# Altium schematic symbol library RPSLib_Diodes.SchLib: 24 symbols
Pins are listed as number, name and electrical type; pins without a type are passive.

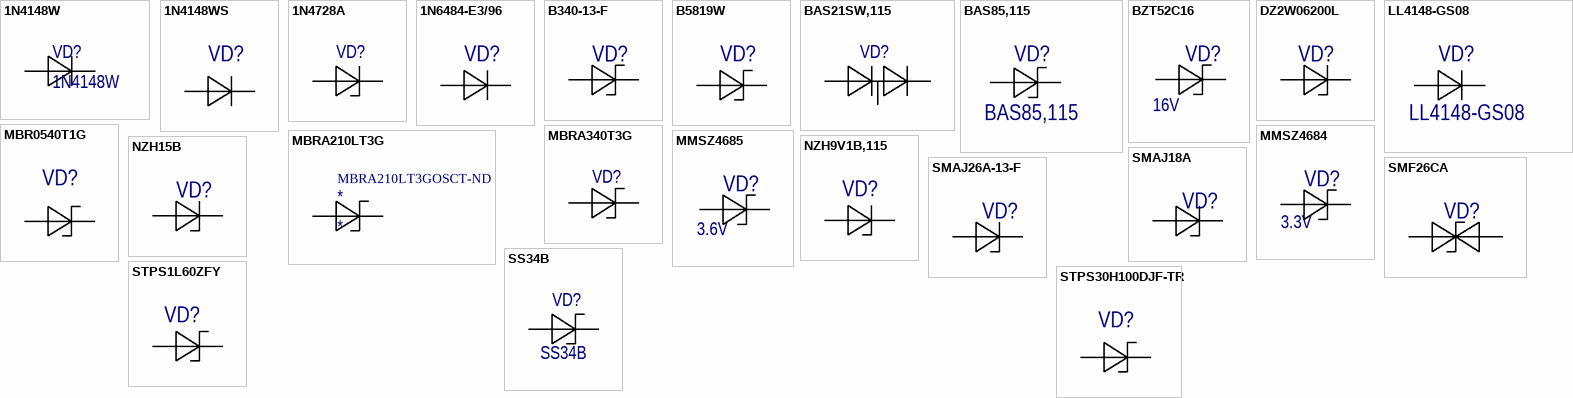
[diagram p0: symbols 1N4148W to STPS30H100DJF-TR]

## 1N4148W
designator VD?
Rectifier Diode Switching 100V 0.3A 4ns 2-Pin SOD-123 T/R / DIODE GEN PURP 100V 150MA SOD123; Manufacturer: JSMSEMI; Capacitance: 0F; Max Forward Surge Current (Ifsm): 1A; Max Reverse Current: 1uA; Max Surge Current: 2A; Forward Voltage: 1V; Power Dissipation: 400mW; Polarity: Standard; Max Reverse Leakage Current: 5uA; Supplier 1: LCSC; Manufacturer Part Number: 1N4148W; RoHS: Yes; Category: Rectifier Diodes; Stock 1: 5591842; Pricing 1: 1=0,12, 10=0,083, 100=0,045, 500=0,03534, 1000=0,02454 (USD); Mount: Surface Mount; Number of Pins: 2; Min Operating Temperature: -65°C; Max Operating Temperature: 150°C; Packaging: Tape and Reel; Forward Current: 150mA; Package Quantity: 1; Recovery Time: 4ns; Average Rectified Current: 150mA; Reverse Recovery Time: 4ns; Max Repetitive Reverse Voltage (Vrrm): 100V; Max Reverse Voltage (DC): 100V; Series: -; Peak Non-Repetitive Surge Current: 2A; Reverse Recovery Time-Max: 4ns; Reverse Voltage: 100V; Voltage Rating (DC): 100V; Current Rating: 150mA; Output Current: 150mA; Length: 2.85mm; Width: 1.8mm; Height: 1.2mm; Radiation Hardening: No; Lead Free: Lead Free; RoHS Compliant: Yes; Reach SVHC Compliant: Unknown; Supplier Part Number 1: C917030
footprint SOD123
pins: 1 A, 2 K

## 1N4148WS
designator VD?  (value not drawn)
DIODE GEN PURP 75V 150MA SOD323F; Manufacturer: ON Semiconductor / Fairchild; Element Configuration: Single; Reverse Recovery Time: 4ns; Forward Voltage: 1V; Peak Reverse Current: 5uA; Power Dissipation: 200mW; Max Forward Surge Current (Ifsm): 2A; Supplier 1: Digi-Key; Manufacturer Part Number: 1N4148WS; RoHS: Yes; Category: Rectifier Diodes; Stock 1: 500500; Pricing 1: 1=0,17000, 10=0,15200, 100=0,06350, 500=0,04986, 1000=0,03462 (USD); Mount: Surface Mount; Number of Pins: 2; Weight: 0.0276g; Contact Plating: Tin,Matte; Min Operating Temperature: -55°C; Max Operating Temperature: 150°C; Forward Current: 150mA; Max Repetitive Reverse Voltage (Vrrm): 75V; Packaging: Tape and Reel; Package Quantity: 1; Average Rectified Current: 150mA; Max Reverse Voltage (DC): 75V; Recovery Time: 4ns; Reverse Voltage: 75V; Length: 1.8mm; Height: 1mm; Width: 1.35mm; Radiation Hardening: No; Lead Free: Lead Free; REACH SVHC: No SVHC; ComponentLink1URL: https://datasheet.ciiva.com/25968/1n914bws-25968945.pdf?src-supplier=Avnet+Europe; ComponentLink1Description: https://datasheet.ciiva.com/25968/1n914bws-25968945.pdf?src-supplier=Avnet+Europe; ComponentLink2URL: https://datasheet.ciiva.com/30479/0900766b810e1cd3-30479206.pdf?src-supplier=RSComponents; ComponentLink2Description: https://datasheet.ciiva.com/30479/0900766b810e1cd3-30479206.pdf?src-supplier=RSComponents; ComponentLink3URL: https://datasheet.ciiva.com/15208/getdatasheetpartid-127819-15208358.pdf?src-supplier=Verical; ComponentLink3Description: https://datasheet.ciiva.com/15208/getdatasheetpartid-127819-15208358.pdf?src-supplier=Verical; ComponentLink4URL: https://datasheet.ciiva.com/8300/1n914bws-8300360.pdf?src-supplier=Avnet; ComponentLink4Description: https://datasheet.ciiva.com/8300/1n914bws-8300360.pdf?src-supplier=Avnet; ComponentLink5URL: https://datasheet.ciiva.com/910/1n4148ws-910380.pdf?src-supplier=Digi-Key; ComponentLink5Description: https://datasheet.ciiva.com/910/1n4148ws-910380.pdf?src-supplier=Digi-Key; ComponentLink6URL: https://datasheet.ciiva.com/910/1n4148ws-910381.pdf?src-supplier=Digi-Key; ComponentLink6Description: https://datasheet.ciiva.com/910/1n4148ws-910381.pdf?src-supplier=Digi-Key; ComponentLink7URL: https://datasheet.ciiva.com/910/1n4148ws-910382.pdf?src-supplier=Digi-Key; ComponentLink7Description: https://datasheet.ciiva.com/910/1n4148ws-910382.pdf?src-supplier=Digi-Key; Supplier Part Number 1: 1N4148WSFSCT-ND
footprint SOD323
pins: 1 K, 2 A

## 1N4728A
designator VD?  (value not drawn)
1N4728 Series 1 W 3.3 V 100 uA Through Hole Zener Diode - DO-41; Manufacturer: ON Semiconductor / Fairchild; Supplier 1: Digikey; Manufacturer Part Number: 1N4728A; RoHS: Yes; Category: Zener Diodes; Stock 1: 7112; Pricing 1: 1=0,28, 10=0,193, 100=0,0942, 500=0,07858, 1000=0,0546, 3000=0,04732, 6000=0,0439, 12000=0,0364, 51000=0,03212 (USD); ComponentLink1URL: https://datasheet.ciiva.com/15142/getdatasheetpartid-60747-15142276.pdf?src-supplier=Verical; ComponentLink1Description: https://datasheet.ciiva.com/15142/getdatasheetpartid-60747-15142276.pdf?src-supplier=Verical; ComponentLink2URL: https://datasheet.ciiva.com/27049/743333-27049709.pdf?src-supplier=Jameco; ComponentLink2Description: https://datasheet.ciiva.com/27049/743333-27049709.pdf?src-supplier=Jameco; ComponentLink3URL: https://datasheet.ciiva.com/8059/76501-8059614.pdf?src-supplier=Element14; ComponentLink3Description: https://datasheet.ciiva.com/8059/76501-8059614.pdf?src-supplier=Element14; ComponentLink4URL: https://datasheet.ciiva.com/897/1n4731a-897560.pdf?src-supplier=Digikey; ComponentLink4Description: https://datasheet.ciiva.com/897/1n4731a-897560.pdf?src-supplier=Digikey; ComponentLink5URL: https://datasheet.ciiva.com/3304/1n4730a-3304278.pdf?src-supplier=Avnet; ComponentLink5Description: https://datasheet.ciiva.com/3304/1n4730a-3304278.pdf?src-supplier=Avnet; ComponentLink6URL: https://datasheet.ciiva.com/1181/1482758-1181763.pdf?src-supplier=Element14; ComponentLink6Description: https://datasheet.ciiva.com/1181/1482758-1181763.pdf?src-supplier=Element14; ComponentLink7URL: https://datasheet.ciiva.com/16836/1n4728a-16836229.pdf?src-supplier=Future+Electronics; ComponentLink7Description: https://datasheet.ciiva.com/16836/1n4728a-16836229.pdf?src-supplier=Future+Electronics; Supplier Part Number 1: 1N4728A-ND
footprint DO-41 (Molded Diode, 2-Leads,  Throug hple)
pins: 1 C, 2 A

## 1N6484-E3/96
designator VD?  (value not drawn)
Rectifier Diode, 1 Element, 1A, 1000V V(RRM), Silicon, DO-213AB; Manufacturer: Vishay Semiconductors; Max Reverse Current: 10uA; Max Surge Current: 30A; Forward Voltage: 1.1V; Max Repetitive Reverse Voltage (Vrrm): 1kV; Element Configuration: Single; Supplier 1: Digi-Key; Manufacturer Part Number: 1N6484-E3/96; RoHS: Yes; Category: Rectifier Diodes; Mount: Surface Mount; Case/Package: DO-213AB; Number of Pins: 2; Contact Plating: Tin,Matte; Min Operating Temperature: -65°C; Max Operating Temperature: 175°C; Packaging: Tape and Reel; Forward Current: 1A; Package Quantity: 1; Average Rectified Current: 1A; Peak Non-Repetitive Surge Current: 30A; Max Reverse Voltage (DC): 1kV; Reverse Voltage: 1kV; Series: SUPERECTIFIER®; Diameter: 2.67mm; Length: 5.2mm; Radiation Hardening: No; Lead Free: Lead Free; RoHS Compliant: Yes; ComponentLink1URL: https://datasheet.ciiva.com/15190/getdatasheetpartid-323020-15190531.pdf?src-supplier=Verical; ComponentLink1Description: https://datasheet.ciiva.com/15190/getdatasheetpartid-323020-15190531.pdf?src-supplier=Verical; ComponentLink2URL: https://datasheet.ciiva.com/16303/1n6478-16303278.pdf?src-supplier=Future+Electronics; ComponentLink2Description: https://datasheet.ciiva.com/16303/1n6478-16303278.pdf?src-supplier=Future+Electronics; Supplier Part Number 1: 1N6484-E3/96-ND
footprint DIOMELF5025N
pins: 1 K, 2 A

## B340-13-F
designator VD?  (value not drawn)
Diode Schottky 40V 3A 2-Pin SMC T/R; Manufacturer: Diodes; Element Configuration: Single; Peak Reverse Current: 500uA; Forward Voltage: 500mV; Max Forward Surge Current (Ifsm): 100A; Polarity: Standard; Capacitance: 250pF; Supplier 1: Digi-Key; Manufacturer Part Number: B340-13-F; RoHS: Yes; Category: Rectifier Diodes; Stock 1: 12759; Pricing 1: 1=0,36000, 10=0,29300, 25=0,26840, 100=0,16850, 250=0,16660, 500=0,15600, 1000=0,10608 (USD); Mount: Surface Mount; Case/Package: SMC; Number of Pins: 2; Weight: 0.007408oz; Min Operating Temperature: -55°C; Max Operating Temperature: 125°C; Forward Current: 3A; Max Repetitive Reverse Voltage (Vrrm): 40V; Packaging: Tape and Reel; Peak Non-Repetitive Surge Current: 100A; Package Quantity: 3000; Average Rectified Current: 3A; Voltage Rating (DC): 40V; Current Rating: 3A; Output Current: 3A; Max Reverse Voltage (DC): 40V; Termination: SMD/SMT; Current: 3A; Voltage: 40V; Length: 7.11mm; Height: 2.5mm; Width: 6.22mm; Radiation Hardening: No; Lead Free: Lead Free; REACH SVHC: No SVHC; ComponentLink1URL: https://datasheet.ciiva.com/914/ds30923-914112.pdf?src-supplier=Digi-Key; ComponentLink1Description: https://datasheet.ciiva.com/914/ds30923-914112.pdf?src-supplier=Digi-Key; ComponentLink2URL: https://datasheet.ciiva.com/26949/getdatasheetpartid-116064-26949351.pdf?src-supplier=Verical; ComponentLink2Description: https://datasheet.ciiva.com/26949/getdatasheetpartid-116064-26949351.pdf?src-supplier=Verical; ComponentLink3URL: https://datasheet.ciiva.com/16291/ds13005-16291142.pdf?src-supplier=Future+Electronics; ComponentLink3Description: https://datasheet.ciiva.com/16291/ds13005-16291142.pdf?src-supplier=Future+Electronics; Supplier Part Number 1: B340-FDICT-ND
footprint DIOM6959X25N_SMC (Molded Diode, 2-Leads, Body 6,86x5,91mm, IPC Medium Density)
pins: 1 C, 2 A

## B5819W
designator VD?  (value not drawn)
40V 600mV@1A 1A SOD-123 Schottky Barrier Diodes; Manufacturer: MDD; Supplier 1: LCSC; Manufacturer Part Number: B5819W; RoHS: No; Stock 1: 275760; Pricing 1: 20=0,02510, 200=0,02040, 600=0,01700, 2000=0,01350, 10000=0,01310, 20000=0,01290 (USD); Supplier Part Number 1: C64885
footprint SOD123
pins: 1, 2

## BAS21SW,115
designator VD?  (value not drawn)
Small Signal Diode, Dual Isolated, 250 V, 225 mA, 1.25 V, 50 ns, 9 A; Manufacturer: Nexperia; Reverse Recovery Time: 50ns; Forward Current: 125mA; Max Repetitive Reverse Voltage (Vrrm): 250V; Peak Non-Repetitive Surge Current: 9A; Average Rectified Current: 225mA; Capacitance: 2pF; Max Reverse Leakage Current: 100nA; Max Surge Current: 625mA; Max Power Dissipation: 200mW; Element Configuration: 5461ElementConfiguration; Forward Voltage: 1.25V; Supplier 1: Digikey; Manufacturer Part Number: BAS21SW,115; RoHS: Yes; Category: Rectifier Diodes; Stock 1: 17622; Pricing 1: 1=0,3, 10=0,208, 100=0,1013, 500=0,08452, 1000=0,05872 (USD); Mount: 8Mount; Case/Package: 92Case; Number of Pins: 3NUMBER; Contact Plating: 154ConductorMaterial; Min Operating Temperature: -55°C; Max Operating Temperature: 150°C; Packaging: 10Packaging; Recovery Time: 50ns; Max Reverse Voltage (DC): 250V; Max Reverse Current: 100nA; Power Dissipation: 200mW; Reverse Voltage: 250V; Max Forward Surge Current (Ifsm): 9A; Height: 1.1mm; Radiation Hardening: 5898YesNo; Lead Free: 5697LeadFree; Reach SVHC Compliant: 4186SVHC; ComponentLink1URL: http://www.farnell.com/datasheets/1383269.pdf?src-supplier=Farnell; ComponentLink1Description: http://www.farnell.com/datasheets/1383269.pdf?src-supplier=Farnell; Supplier Part Number 1: 1727-1137-1-ND
footprint SOT95P232X100-3N (SOT23, 3-Leads, Body 2.92x2.32mm, Pitch 0.95mm, IPC Medium Density)
pins: 1 A1, 2 K, 3 COMMON

## BAS85,115
designator VD?
BAS85 Series 30 V 5 A Surface Mount Schottky Barrier Diode - SOD-80C; Manufacturer: Nexperia; Supplier 1: Digi-Key; Manufacturer Part Number: BAS85,115; RoHS: Yes; Stock 1: 20155; Pricing 1: 1=0,40000, 10=0,27700, 100=0,14010, 500=0,11426, 1000=0,08478 (USD); RoHS Compliant: Yes; ComponentLink1URL: http://www.farnell.com/datasheets/698789.pdf?src-supplier=Farnell; ComponentLink1Description: http://www.farnell.com/datasheets/698789.pdf?src-supplier=Farnell; ComponentLink2URL: http://www.farnell.com/datasheets/698789.pdf?src-supplier=Newark; ComponentLink2Description: http://www.farnell.com/datasheets/698789.pdf?src-supplier=Newark; Supplier Part Number 1: 1727-2899-1-ND
footprint DIOMELF3515N-SOD80 (MELF Diode, 2-Leads, Body 3,50x1,50mm, IPC Medium Density)
pins: 1, 2

## BZT52C16
designator VD?  value 16V  (hidden comment: BZT52C16)
Zener Diode 16V 350mW Surface Mount SOD-123; Manufacturer: Changjiang Electronics Tech; Test Current: 5mA; Power Rating: 500mW; Tolerance: 6%; Max Reverse Leakage Current: 100nA; Impedance: 40R; Element Configuration: Single; ESD Protection: No; Forward Voltage: 900mV; Output Current: 50mA; Supplier 1: LCSC; Manufacturer Part Number: BZT52C16; RoHS: Yes; Category: Zener Diodes; Mount: Surface Mount; Number of Pins: 2; Contact Plating: Tin,Matte; Weight: 0.000353oz; Min Operating Temperature: -65°C; Max Operating Temperature: 150°C; Packaging: Tape and Reel; Max Power Dissipation: 350mW; Zener Voltage: 16V; Package Quantity: 3000; Power Dissipation: 500mW; Voltage Tolerance: 6%; Series: -; Termination: SMD/SMT; Zener Current: 5mA; Max Reverse Current: 100nA; Voltage Rating (DC): 16V; Working Voltage: 16V; Length: 2.85mm; Width: 1.7mm; Height: 1.35mm; Radiation Hardening: No; RoHS Compliant: Yes; Lead Free: Lead Free; Supplier Part Number 1: C2105
footprint SOD123
pins: 1 A, 2 C

## DZ2W06200L
designator VD?  (value not drawn)
PANASONIC   DZ2W06200L   Zener Single Diode, 6.2 V, 1 W, SOD-123F, 5 %, 2 Pins, 85 C; Tolerance: 5%; Max Power Dissipation: 1W; Zener Voltage: 6.2V; Impedance: 30R; Zener Current: 10mA; Max Reverse Leakage Current: 20uA; Supplier 1: Digi-Key; Manufacturer: Panasonic; Manufacturer Part Number: DZ2W06200L; Stock 1: 25200; Pricing 1: 1=0.48, 10=0.403, 25=0.3524, 100=0.3021, 250=0.2618, 500=0.2215, 1000=0.1712 (USD); Mount: Surface Mount; Number of Pins: 2; Contact Plating: Tin; Min Operating Temperature: -40°C; Max Operating Temperature: 85°C; Package Quantity: 1; Packaging: Tape and Reel; Voltage Tolerance: 5%; Test Current: 10mA; Element Configuration: Single; Length: 2.6mm; Height: 0.7mm; Width: 1.6mm; REACH SVHC: No SVHC; ComponentLink1URL: http://www.farnell.com/datasheets/1916125.pdf?src-supplier=Element14; ComponentLink1Description: http://www.farnell.com/datasheets/1916125.pdf?src-supplier=Element14; ComponentLink2URL: http://www.farnell.com/datasheets/1680979.pdf?src-supplier=Farnell; ComponentLink2Description: http://www.farnell.com/datasheets/1680979.pdf?src-supplier=Farnell; ComponentLink3URL: http://www.farnell.com/datasheets/1680979.pdf?src-supplier=Element14; ComponentLink3Description: http://www.farnell.com/datasheets/1680979.pdf?src-supplier=Element14; Supplier Part Number 1: DZ2W06200LCT-ND
footprint SODFL350X110-2N (SODFL, 2-Leads, Body 1,65x3,50mm, IPC Medium Density)
pins: 1, 2

## LL4148-GS08
designator VD?
Diode Small Signal Switching 100V 0.3A 2-Pin Mini-MELF SOD-80 T/R; Manufacturer: Vishay; Max Surge Current: 2A; Forward Voltage: 1V; Max Power Dissipation: 500mW; Forward Current: 150mA; Recovery Time: 8ns; Max Reverse Leakage Current: 5uA; Average Rectified Current: 300mA; Element Configuration: Single; Max Reverse Voltage (DC): 75V; Outside Diameter: 1.5mm; Supplier 1: Digi-Key; Manufacturer Part Number: LL4148-GS08; RoHS: Yes; Category: Rectifier Diodes; Mount: Surface Mount; Number of Pins: 2; Contact Plating: Tin,Silver; Min Operating Temperature: -65°C; Max Operating Temperature: 175°C; Packaging: Tape and Reel; Package Quantity: 1; Reverse Recovery Time: 8ns; Power Dissipation: 500mW; Peak Non-Repetitive Surge Current: 2A; Max Repetitive Reverse Voltage (Vrrm): 100V; Max Forward Surge Current (Ifsm): 2A; Termination: SMD/SMT; Current Rating: 150mA; Voltage: 100V; Series: -; Primary Type: SWITCHING; Reverse Recovery Time-Max: 8ns; Diameter: 1.6mm; Length: 0.145inch; Radiation Hardening: No; REACH SVHC: Unknown; Lead Free: Lead Free; RoHS Compliant: Yes; ComponentLink1URL: https://datasheet.ciiva.com/4246/ll4148-4246131.pdf?src-supplier=Arrow+Electronics; ComponentLink1Description: https://datasheet.ciiva.com/4246/ll4148-4246131.pdf?src-supplier=Arrow+Electronics; ComponentLink2URL: https://datasheet.ciiva.com/34301/891018-34301682.pdf?src-supplier=Jameco; ComponentLink2Description: https://datasheet.ciiva.com/34301/891018-34301682.pdf?src-supplier=Jameco; ComponentLink3URL: https://datasheet.ciiva.com/1181/1513919-1181029.pdf?src-supplier=Element14; ComponentLink3Description: https://datasheet.ciiva.com/1181/1513919-1181029.pdf?src-supplier=Element14; ComponentLink4URL: https://datasheet.ciiva.com/1243/1699941-1243749.pdf?src-supplier=Newark; ComponentLink4Description: https://datasheet.ciiva.com/1243/1699941-1243749.pdf?src-supplier=Newark; ComponentLink5URL: https://datasheet.ciiva.com/1243/1353494-1243008.pdf?src-supplier=Newark; ComponentLink5Description: https://datasheet.ciiva.com/1243/1353494-1243008.pdf?src-supplier=Newark; ComponentLink6URL: https://datasheet.ciiva.com/26311/1722544-26311744.pdf?src-supplier=Element14; ComponentLink6Description: https://datasheet.ciiva.com/26311/1722544-26311744.pdf?src-supplier=Element14; ComponentLink7URL: https://datasheet.ciiva.com/1181/1353494-1181031.pdf?src-supplier=Element14; ComponentLink7Description: https://datasheet.ciiva.com/1181/1353494-1181031.pdf?src-supplier=Element14; ComponentLink8URL: https://datasheet.ciiva.com/13946/ll4148-13946731.pdf?src-supplier=Digi-Key; ComponentLink8Description: https://datasheet.ciiva.com/13946/ll4148-13946731.pdf?src-supplier=Digi-Key; ComponentLink9URL: https://datasheet.ciiva.com/13946/ll4148-13946732.pdf?src-supplier=Digi-Key; ComponentLink9Description: https://datasheet.ciiva.com/13946/ll4148-13946732.pdf?src-supplier=Digi-Key; ComponentLink10URL: https://datasheet.ciiva.com/5829/1513919-5829997.pdf?src-supplier=Farnell; ComponentLink10Description: https://datasheet.ciiva.com/5829/1513919-5829997.pdf?src-supplier=Farnell; ComponentLink11URL: https://datasheet.ciiva.com/8287/ll4148-8287869.pdf?src-supplier=Avnet; ComponentLink11Description: https://datasheet.ciiva.com/8287/ll4148-8287869.pdf?src-supplier=Avnet; ComponentLink12URL: https://datasheet.ciiva.com/13946/ll4148-13946733.pdf?src-supplier=Digi-Key; ComponentLink12Description: https://datasheet.ciiva.com/13946/ll4148-13946733.pdf?src-supplier=Digi-Key; ComponentLink13URL: https://datasheet.ciiva.com/8287/ll4148-8287871.pdf?src-supplier=Avnet; ComponentLink13Description: https://datasheet.ciiva.com/8287/ll4148-8287871.pdf?src-supplier=Avnet; Supplier Part Number 1: LL4148-GS08CT-ND
footprint DIOMELF3515N-SOD80 (MELF Diode, 2-Leads, Body 3,50x1,50mm, IPC Medium Density)
pins: 1 K, 2 A

## MBR0540T1G
designator VD?  (value not drawn)
DIODE SCHOTTKY 40V 500MA SOD123; Manufacturer: ON Semiconductor; Current: 0.5 A; Max Surge Current: 5.5A; Forward Voltage: 510mV; Peak Reverse Current: 20uA; Element Configuration: Single; Polarity: Standard; Voltage: 40 V; Supplier 1: Digi-Key; Supplier Part Number 1: MBR0540T1GOSCT-ND; PartNo: MBR0540T1G; Manufacturer Part Number: MBR0540T1G; Stock 1: 724811; Pricing 1: 1=0.41, 10=0.333, 100=0.1763, 500=0.116, 1000=0.07888 (USD); Case/Package: SOD-123-2; Number of Pins: 2; Contact Plating: Matte,Tin; Min Operating Temperature: -55°C; Max Operating Temperature: 150°C; Forward Current: 500mA; Package Quantity: 1; Packaging: Tape and Reel; Max Reverse Leakage Current: 20uA; Average Rectified Current: 500mA; Max Repetitive Reverse Voltage (Vrrm): 40V; Max Forward Surge Current (Ifsm): 5.5A; Peak Non-Repetitive Surge Current: 5.5A; Voltage Rating (DC): 40V; Current Rating: 500mA; Output Current: 500mA; Max Reverse Voltage (DC): 40V; Length: 0.111inch; Height: 0.049inch; Width: 0.071inch; Radiation Hardening: No; REACH SVHC: No SVHC; Lead Free: Lead Free; Halogen Free: Halogen Free; РКД Наименование: *
footprint SOD123 (Footprint not found)
pins: 1, 2

## MBRA210LT3G
designator *  Supplier Part Number 1: MBRA210LT3GOSCT-ND
Diode Schottky 10V 2A 2-Pin SMA T/R; Manufacturer: ON Semiconductor; Manufacturer Part Number: MBRA210LT3G; Forward Voltage: 350mV; Max Reverse Current: 700uA; Max Forward Surge Current (Ifsm): 160A; Element Configuration: Single; Polarity: Standard; Supplier 1: Digi-Key; RoHS: Yes; Category: Rectifier Diodes; Stock 1: 4953; Pricing 1: 1=0,50000, 10=0,43100, 100=0,29930, 500=0,23368, 1000=0,18994, 2000=0,16980 (USD); Case/Package: SMA; Number of Pins: 2; Contact Plating: Tin,Matte; Min Operating Temperature: -55°C; Max Operating Temperature: 125°C; Package Quantity: 1; Forward Current: 2A; Packaging: Tape and Reel; Average Rectified Current: 2A; Max Repetitive Reverse Voltage (Vrrm): 10V; Peak Non-Repetitive Surge Current: 160A; Max Reverse Voltage (DC): 10V; Series: -; Voltage Rating (DC): 10V; Current Rating: 2A; Output Current: 2A; Max Surge Current: 160A; Max Reverse Leakage Current: 700uA; Length: 4.57mm; Width: 2.92mm; Height: 2.05mm; Radiation Hardening: No; Lead Free: Lead Free; Halogen Free: Halogen Free; RoHS Compliant: Yes; REACH SVHC: No SVHC; ComponentLink1URL: https://datasheet.ciiva.com/916/mbra210lt3-d-916020.pdf?src-supplier=Digi-Key; ComponentLink1Description: https://datasheet.ciiva.com/916/mbra210lt3-d-916020.pdf?src-supplier=Digi-Key; ComponentLink2URL: https://datasheet.ciiva.com/916/mbra210lt3-d-916020.pdf?src-supplier=Avnet; ComponentLink2Description: https://datasheet.ciiva.com/916/mbra210lt3-d-916020.pdf?src-supplier=Avnet; ComponentLink3URL: https://datasheet.ciiva.com/23943/mbra210lt3-d-23943091.pdf?src-supplier=Newark; ComponentLink3Description: https://datasheet.ciiva.com/23943/mbra210lt3-d-23943091.pdf?src-supplier=Newark; ComponentLink4URL: https://datasheet.ciiva.com/4714/mbra210lt3-d-76406-4714825.pdf?src-supplier=Mouser; ComponentLink4Description: https://datasheet.ciiva.com/4714/mbra210lt3-d-76406-4714825.pdf?src-supplier=Mouser; ComponentLink5URL: https://datasheet.ciiva.com/916/mbra210lt3-d-916022.pdf?src-supplier=Digi-Key; ComponentLink5Description: https://datasheet.ciiva.com/916/mbra210lt3-d-916022.pdf?src-supplier=Digi-Key; ComponentLink6URL: https://datasheet.ciiva.com/7963/mbra210lt3-d-7963003.pdf?src-supplier=Element14; ComponentLink6Description: https://datasheet.ciiva.com/7963/mbra210lt3-d-7963003.pdf?src-supplier=Element14; ComponentLink7URL: https://datasheet.ciiva.com/7963/mbra210lt3-d-7963004.pdf?src-supplier=Element14; ComponentLink7Description: https://datasheet.ciiva.com/7963/mbra210lt3-d-7963004.pdf?src-supplier=Element14; ComponentLink8URL: https://datasheet.ciiva.com/16207/mbra210lt3-d-16207839.pdf?src-supplier=Future+Electronics; ComponentLink8Description: https://datasheet.ciiva.com/16207/mbra210lt3-d-16207839.pdf?src-supplier=Future+Electronics
pins: 1, 2

## MBRA340T3G
designator VD?  (value not drawn)
ON SEMICONDUCTOR - MBRA340T3G - Schottky-Gleichrichterdiode, 40 V, 3 A, Einfach, DO-214AC (SMA), 2 Pin(s), 450 mV; Forward Voltage: 450mV; Forward Current: 3A; Max Reverse Current: 300uA; Max Repetitive Reverse Voltage (Vrrm): 40V; Max Forward Surge Current (Ifsm): 100A; Element Configuration: Single; Polarity: Standard; Supplier 1: Digi-Key; Manufacturer: ON Semiconductor; Manufacturer Part Number: MBRA340T3G; RoHS: Yes; Category: Schottky Diodes; Pricing 1: 1=0,54000, 10=0,42300, 100=0,25360, 500=0,23480, 1000=0,15966, 2000=0,14698 (USD); Case/Package: SMA; Number of Pins: 2; Min Operating Temperature: -55°C; Max Operating Temperature: 150°C; Package Quantity: 1; Packaging: Tape and Reel; Average Rectified Current: 3A; Peak Non-Repetitive Surge Current: 100A; Max Reverse Voltage (DC): 40V; Series: -; Voltage Rating (DC): 40V; Current Rating: 3A; Output Current: 3A; Length: 4.32mm; Width: 2.6mm; Height: 2mm; Radiation Hardening: No; Lead Free: Lead Free; Halogen Free: Halogen Free; RoHS Compliant: Yes; REACH SVHC: No SVHC; ComponentLink1URL: https://datasheet.ciiva.com/5762/1681364-5762960.pdf?src-supplier=Farnell; ComponentLink1Description: https://datasheet.ciiva.com/5762/1681364-5762960.pdf?src-supplier=Farnell; ComponentLink2URL: https://datasheet.ciiva.com/8299/mbra340t3-d-8299920.pdf?src-supplier=Avnet; ComponentLink2Description: https://datasheet.ciiva.com/8299/mbra340t3-d-8299920.pdf?src-supplier=Avnet; ComponentLink3URL: https://datasheet.ciiva.com/916/mbra340t3-d-916023.pdf?src-supplier=Digi-Key; ComponentLink3Description: https://datasheet.ciiva.com/916/mbra340t3-d-916023.pdf?src-supplier=Digi-Key; ComponentLink4URL: https://datasheet.ciiva.com/916/mbra340t3-d-916024.pdf?src-supplier=Digi-Key; ComponentLink4Description: https://datasheet.ciiva.com/916/mbra340t3-d-916024.pdf?src-supplier=Digi-Key; ComponentLink5URL: https://datasheet.ciiva.com/916/mbra340t3-d-916025.pdf?src-supplier=Digi-Key; ComponentLink5Description: https://datasheet.ciiva.com/916/mbra340t3-d-916025.pdf?src-supplier=Digi-Key; ComponentLink6URL: https://datasheet.ciiva.com/7962/1681364-7962778.pdf?src-supplier=Element14; ComponentLink6Description: https://datasheet.ciiva.com/7962/1681364-7962778.pdf?src-supplier=Element14; ComponentLink7URL: https://datasheet.ciiva.com/22659/1681364-22659034.pdf?src-supplier=Element14; ComponentLink7Description: https://datasheet.ciiva.com/22659/1681364-22659034.pdf?src-supplier=Element14; ComponentLink8URL: https://datasheet.ciiva.com/14558/70100193-14558444.pdf?src-supplier=Allied+Electronics; ComponentLink8Description: https://datasheet.ciiva.com/14558/70100193-14558444.pdf?src-supplier=Allied+Electronics; ComponentLink9URL: https://datasheet.ciiva.com/16390/mbra340t3-d-16390941.pdf?src-supplier=Future+Electronics; ComponentLink9Description: https://datasheet.ciiva.com/16390/mbra340t3-d-16390941.pdf?src-supplier=Future+Electronics; Supplier Part Number 1: MBRA340T3GOSCT-ND
footprint DIOM4326X24N - SMA (Molded Diode, 2-Leads, Body 4,28x2,58mm, IPC Medium Density)
pins: 1 C, 2 A

## MMSZ4684
designator VD?  value 3.3V  (hidden comment: MMSZ4684)
Zener Diode 3.3V 350mW ±5% Surface Mount SOD-123; Manufacturer: Changjiang Electronics Tech (CJ); Material: Plastic; Element Configuration: Single; Voltage Tolerance: 3%; Zener Current: 50uA; Max Reverse Leakage Current: 7.5uA; Power Dissipation: 500mW; Forward Voltage: 900mV; Breakdown Voltage: 3.47V; Supplier 1: LCSC; Manufacturer Part Number: MMSZ4684; RoHS: Yes; Category: Zener Diodes; Case/Package: SOD-123-2; Number of Pins: 2; Min Operating Temperature: -55°C; Max Operating Temperature: 150°C; Max Power Dissipation: 350mW; Package Quantity: 1; Packaging: Tape and Reel; Zener Voltage: 3.3V; Tolerance: 5%; Test Current: 50uA; Working Voltage: 3.3V; Max Reverse Current: 50uA; Termination: SMD/SMT; Voltage Rating (DC): 3.3V; Power Rating: 500mW; Length: 2.84mm; Width: 1.8mm; Height: 1.25mm; Radiation Hardening: No; RoHS Compliant: Yes; REACH SVHC: No SVHC; Lead Free: Lead Free; ComponentLink6URL: https://datasheet.ciiva.com/895/mmsz4678t1-d-895013.pdf?src-supplier=Digi-Key; ComponentLink6Description: https://datasheet.ciiva.com/895/mmsz4678t1-d-895013.pdf?src-supplier=Digi-Key; Supplier Part Number 1: C21510
footprint SOD123
pins: 1 A, 2 C

## MMSZ4685
designator VD?  value 3.6V  (hidden comment: MMSZ4685)
Zener Diode 3.6V 350mW ±5% Surface Mount SOD-123; Manufacturer: Changjiang Electronics Tech (CJ); Material: Plastic; Element Configuration: Single; Voltage Tolerance: 3%; Zener Current: 50uA; Max Reverse Leakage Current: 7.5uA; Forward Voltage: 900mV; Power Rating: 500mW; Breakdown Voltage: 3.78V; Supplier 1: LCSC; Manufacturer Part Number: MMSZ4685; RoHS: Yes; Category: Zener Diodes; Case/Package: SOD-123-2; Number of Pins: 2; Min Operating Temperature: -55°C; Max Operating Temperature: 150°C; Max Power Dissipation: 350mW; Package Quantity: 1; Packaging: Tape and Reel; Tolerance: 5%; Test Current: 50uA; Power Dissipation: 350mW; Working Voltage: 3.6V; Max Reverse Current: 50uA; Termination: SMD/SMT; Voltage Rating (DC): 3.6V; Length: 2.84mm; Width: 1.8mm; Height: 1.25mm; Radiation Hardening: No; RoHS Compliant: Yes; REACH SVHC: No SVHC; Lead Free: Lead Free; ComponentLink6URL: https://datasheet.ciiva.com/895/mmsz4678t1-d-895013.pdf?src-supplier=Digi-Key; ComponentLink6Description: https://datasheet.ciiva.com/895/mmsz4678t1-d-895013.pdf?src-supplier=Digi-Key; Supplier Part Number 1: C81602; Zener Voltage: 3.6V
footprint SOD123
pins: 1 A, 2 C

## NZH9V1B,115
designator VD?  (value not drawn)
Diode Zener Single 9.04V 2% 1W Automotive 2-Pin Sod-123F T/R; Manufacturer: NXP Semiconductors; Max Power Dissipation: 500mW; Max Reverse Leakage Current: 500nA; Impedance: 8R; Supplier 1: Digi-Key; Manufacturer Part Number: NZH9V1B,115; Stock 1: 19138; Pricing 1: 1=0.21, 10=0.174, 100=0.0925, 500=0.0608, 1000=0.0414 (USD); Mount: Surface Mount; Number of Pins: 2; Min Operating Temperature: -55°C; Max Operating Temperature: 150°C; Zener Voltage: 9.04V; Element Configuration: Single; Packaging: Tape and Reel; Package Quantity: 1; Tolerance: 2%; Voltage Tolerance: 2%; Power Dissipation: 500mW; Radiation Hardening: No; Lead Free: Lead Free; ComponentLink1URL: http://www.nxp.com/documents/data_sheet/NZH_SER.pdf?src-supplier=Digi-Key; ComponentLink1Description: http://www.nxp.com/documents/data_sheet/NZH_SER.pdf?src-supplier=Digi-Key; ComponentLink2URL: http://www.nxp.com/documents/data_sheet/NZH_SER.pdf?src-supplier=Avnet+Europe; ComponentLink2Description: http://www.nxp.com/documents/data_sheet/NZH_SER.pdf?src-supplier=Avnet+Europe; Supplier Part Number 1: 1727-5081-1-ND
footprint SODFL350X110-2N (SODFL, 2-Leads, Body 1,65x3,50mm, IPC Medium Density)
pins: 1, 2

## NZH15B
designator VD?  (value not drawn)
DIODE ZENER 15V 500MW SOD123F; Manufacturer: Nexperia; Manufacturer Part Number: NZH15B,115; Supplier 1: Digi-Key; RoHS: No; Stock 1: 14866; Pricing 1: 1=0,20000, 10=0,16600, 100=0,06800, 500=0,05670, 1000=0,03940 (USD); ComponentLink1URL: https://assets.nexperia.com/documents/data-sheet/NZH_SER.pdf?src-supplier=Digi-Key; ComponentLink1Description: https://assets.nexperia.com/documents/data-sheet/NZH_SER.pdf?src-supplier=Digi-Key; Supplier Part Number 1: 1727-5061-1-ND
footprint SODFL350X110-2N (SODFL, 2-Leads, Body 1,65x3,50mm, IPC Medium Density)
pins: 1, 2

## SMAJ18A
designator VD?, comment SMAJ18A-13-F  (value not drawn)
Diode TVS Single Uni-Dir 18V 400W 2-Pin SMA T/R Description Diode TVS Single Uni-Dir 18V 400W 2-Pin SMA T/R; PartNo: SMAJ24A; Manufacturer: Diodes; Min Breakdown Voltage: 20V; Clamping Voltage: 29.2V; Polarity: Unidirectional; Peak Pulse Current: 13.7A; Number of Elements: 1; Max Surge Current: 40A; Test Current: 1mA; Leakage Current: 5uA; Power Line Protection: No; Max Breakdown Voltage: 22.1V; Capacitance: 580pF; Forward Voltage: 3.5V; Supplier 1: Digi-Key; Manufacturer Part Number: SMAJ18A-13-F; Stock 1: 36986; Pricing 1: 1=0.41, 10=0.311, 100=0.1937, 500=0.13256, 1000=0.10197 (USD); Mount: Surface Mount; Case/Package: SMA; Number of Pins: 2; Min Operating Temperature: -55°C; Max Operating Temperature: 150°C; Packaging: Tape and Reel; Reverse Standoff Voltage: 18V; Peak Pulse Power: 400W; Breakdown Voltage: 20V; Reverse Breakdown Voltage: 20V; Package Quantity: 5000; Termination: SMD/SMT; Max Power Dissipation: 400W; Direction: Unidirectional; Number of Unidirectional Channels: 1; Composition: Zener; Max Reverse Leakage Current: 5uA; Element Configuration: Single; Voltage Rating (DC): 18V; Power Dissipation: 400W; Working Voltage: 18V; Max Output Current: 13.7A; Length: 4.6mm; Height: 2.1mm; Width: 2.92mm; Radiation Hardening: No; Lead Free: Lead Free; Supplier Part Number 1: SMAJ18A-FDICT-ND; РКД Наименование: *
footprint DIOM4326X24N - SMA (Footprint not found)
pins: 1, 2

## SMAJ26A-13-F
designator VD?  (value not drawn)
TVS DIODE 26VWM 42.1VC SMA; Manufacturer: Diodes; Direction: Unidirectional; Max Surge Current: 40A; Reverse Standoff Voltage: 26V; Min Breakdown Voltage: 28.9V; Clamping Voltage: 42.1V; Peak Pulse Power: 400W; Test Current: 1mA; Peak Pulse Current: 9.5A; Max Reverse Leakage Current: 5uA; Element Configuration: Single; Number of Unidirectional Channels: 1; Power Line Protection: No; Max Breakdown Voltage: 31.9V; Diode Type: ZENER; Forward Voltage: 3.5V; Capacitance: 360pF; Supplier 1: LCSC; Manufacturer Part Number: SMAJ26A-13-F; RoHS: Yes; Category: TVS Diodes; Stock 1: 4615; Pricing 1: 5=0,16140, 50=0,13810, 150=0,12120, 500=0,10730, 2500=0,10490, 5000=0,10370 (USD); Mount: Surface Mount; Case/Package: SMA; Number of Pins: 2; Contact Plating: Tin,Matte; Min Operating Temperature: -55°C; Max Operating Temperature: 150°C; Package Quantity: 5000; Packaging: Tape and Reel; Breakdown Voltage: 28.9V; Polarity: Unidirectional; Series: -; Max Power Dissipation: 400W; Reverse Breakdown Voltage: 28.9V; Termination: SMD/SMT; Number of Elements: 1; Leakage Current: 5uA; Resistor Type: Zener; Voltage Rating (DC): 26V; Power Dissipation: 400W; Clamping Voltage-Max: 42.1V; ESD Protection: No; Working Voltage: 26V; Max Output Current: 9.5A; Length: 4.6mm; Width: 2.92mm; Height: 2.1mm; Radiation Hardening: No; RoHS Compliant: Yes; Lead Free: Lead Free; ComponentLink1URL: http://www.mouser.com/ds/2/115/ds19005-73607.pdf?src-supplier=Mouser; ComponentLink1Description: http://www.mouser.com/ds/2/115/ds19005-73607.pdf?src-supplier=Mouser; ComponentLink2URL: http://www.alliedelec.com/m/d/d79d842ffe6711df39c2a36ff163714d.pdf?src-supplier=Allied+Electronics; ComponentLink2Description: http://www.alliedelec.com/m/d/d79d842ffe6711df39c2a36ff163714d.pdf?src-supplier=Allied+Electronics; ComponentLink3URL: http://uk.rs-online.com/webdocs/1321/0900766b81321cf6.pdf?src-supplier=RSComponents; ComponentLink3Description: http://uk.rs-online.com/webdocs/1321/0900766b81321cf6.pdf?src-supplier=RSComponents; ComponentLink4URL: http://components.arrow.com/part/dataview/41509874S7563994N2867?src-supplier=Arrow+Electronics; ComponentLink4Description: http://components.arrow.com/part/dataview/41509874S7563994N2867?src-supplier=Arrow+Electronics; ComponentLink5URL: http://www.diodes.com/datasheets/ds19005.pdf?src-supplier=Avnet; ComponentLink5Description: http://www.diodes.com/datasheets/ds19005.pdf?src-supplier=Avnet; ComponentLink6URL: http://www.diodes.com/_files/datasheets/ds19005.pdf?src-supplier=Future+Electronics; ComponentLink6Description: http://www.diodes.com/_files/datasheets/ds19005.pdf?src-supplier=Future+Electronics; ComponentLink7URL: https://www.verical.com/server-webapp/html/getDatasheet?partID=95742&src-supplier=Verical; ComponentLink7Description: https://www.verical.com/server-webapp/html/getDatasheet?partID=95742&src-supplier=Verical; ComponentLink8URL: https://www.diodes.com/assets/Datasheets/ds19005.pdf?src-supplier=Digi-Key; ComponentLink8Description: https://www.diodes.com/assets/Datasheets/ds19005.pdf?src-supplier=Digi-Key; ComponentLink9URL: http://www.te.com/commerce/DocumentDelivery/DDEController?Action=showdoc&DocId=Data+Sheet%7FRPII%2F2%7F0415%7Fpdf%7FEnglish%7FENG_DS_RPIIX2_0415.pdf&src-supplier=Digi-Key; ComponentLink9Description: http://www.te.com/commerce/DocumentDelivery/DDEController?Action=showdoc&DocId=Data+Sheet%7FRPII%2F2%7F0415%7Fpdf%7FEnglish%7FENG_DS_RPIIX2_0415.pdf&src-supplier=Digi-Key; Supplier Part Number 1: C134975
footprint DIOM4326X24N - SMA (Molded Diode, 2-Leads, Body 4,28x2,58mm, IPC Medium Density)
pins: 1, 2

## SMF26CA
designator VD?  (value not drawn)
ESD Suppressor TVS 16KV 2-Pin SOD-123FL T/R; Manufacturer: MDD; Direction: Bidirectional; Clamping Voltage: 42.1V; Working Voltage: 26V; Leakage Current: 1uA; Element Configuration: Single; Supplier 1: LCSC; Manufacturer Part Number: SMF26CA; RoHS: Yes; Pricing 1: 1=0,45000, 10=0,33600, 50=0,33600, 100=0,20900, 1000=0,11000, 10000=0,09300 (USD); Number of Pins: 2; Min Operating Temperature: -65°C; Max Operating Temperature: 150°C; Packaging: Tape and Reel; Length: 2.85mm; Depth: 1.8mm; Radiation Hardening: No; RoHS Compliant: Yes; ComponentLink1URL: http://components.arrow.com/part/dataview/49208257S300822N2022?src-supplier=Arrow+Electronics; ComponentLink1Description: http://components.arrow.com/part/dataview/49208257S300822N2022?src-supplier=Arrow+Electronics; Supplier Part Number 1: C123812
footprint SOD123FL
pins: 1, 2

## SS34B
designator VD?
40V Independent Type 550mV@3.0A 3A SMB Schottky Diodes ROHS; Manufacturer: hongjiacheng; Supplier 1: LCSC; Manufacturer Part Number: SS34B; RoHS: No; Stock 1: 6600; Pricing 1: 300=0,107, 700=0,099, 1500=0,092, 3000=0,085 (EUR); Supplier Part Number 1: C7420366
footprint DIOM4636X26N - SMB (Molded Diode, 2-Leads, Body 4,55x3,62mm, IPC Medium Density)
pins: 1, 2

## STPS1L60ZFY
designator VD?  (value not drawn)
DIODE SCHOTTKY 60V 1A SOD123F; Manufacturer: STMicroelectronics; Supplier 1: Digi-Key; Manufacturer Part Number: STPS1L60ZFY; Stock 1: 85300; Pricing 1: 1=0.47, 10=0.346, 100=0.196, 500=0.1298, 1000=0.0995 (USD); Mount: Surface Mount; Case/Package: SOD; Packaging: Tape and Reel; Max Reverse Voltage (DC): 60V; Average Rectified Current: 1A; Supplier Part Number 1: 497-17154-1-ND
footprint SODFL350X110-2N (SODFL, 2-Leads, Body 1,65x3,50mm, IPC Medium Density)
pins: 1 2, 2 1

## STPS30H100DJF-TR
designator VD?  (value not drawn)
Diode Schottky 100V 30A 8-Pin Power Flat T/R; Manufacturer: STMicroelectronics; Element Configuration: Common Anode; Forward Voltage: 840mV; Peak Reverse Current: 6uA; Natural Thermal Resistance: 2°C/W; Peak Non-Repetitive Surge Current: 250A; Supplier 1: Digi-Key; Manufacturer Part Number: STPS30H100DJF-TR; RoHS: Yes; Category: Rectifier Diodes; Stock 1: 9779; Pricing 1: 1=1,55000, 10=1,39200, 100=1,02430, 500=0,86674, 1000=0,73542 (USD); Mount: Surface Mount; Case/Package: SMD/SMT; Number of Pins: 8; Min Operating Temperature: -65°C; Max Operating Temperature: 150°C; Package Quantity: 3000; Packaging: Tape and Reel; Forward Current: 30A; Reverse Voltage (DC): 100V; Average Rectified Current: 30A; Max Repetitive Reverse Voltage (Vrrm): 100V; Max Forward Surge Current (Ifsm): 250A; Max Reverse Voltage (DC): 100V; REACH SVHC: No SVHC; ComponentLink1URL: https://datasheet.ciiva.com/22686/1716329-22686564.pdf?src-supplier=Element14; ComponentLink1Description: https://datasheet.ciiva.com/22686/1716329-22686564.pdf?src-supplier=Element14; ComponentLink2URL: https://datasheet.ciiva.com/29591/dm00051769-29591284.pdf?src-supplier=Digi-Key; ComponentLink2Description: https://datasheet.ciiva.com/29591/dm00051769-29591284.pdf?src-supplier=Digi-Key; Supplier Part Number 1: 497-15671-1-ND
footprint PowerFlat6x6_diode
pins: 1 C, 2 A